# EAGLE library part MB85RC04V (library ic-Fujitsu)
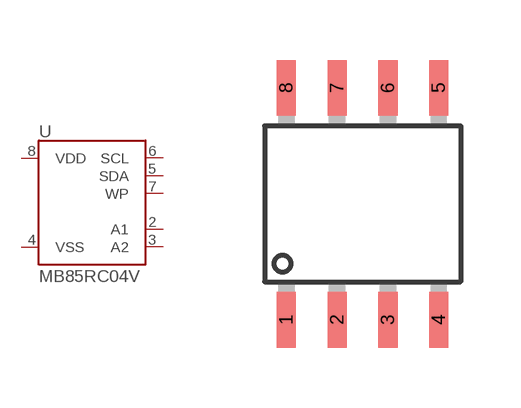
[diagram p0: symbol with the pads of SOP8; footprint SOP8]

Designator prefix U

## MB85RC04VPNF-G-JNE1  [SOP8]
2  A1
3  A2
4  VSS
5  SDA
6  SCL
7  WP
8  VDD

## Footprint SOP8 (pad centres in mm)
smd 0.48 x 1.4: 1 -1.905,-2.9; 2 -0.635,-2.9; 3 0.635,-2.9; 4 1.905,-2.9; 5 1.905,2.9; 6 0.635,2.9; 7 -0.635,2.9; 8 -1.905,2.9